# Altium footprint library AMPHENOL_F51L-1A7H1-11010.PcbLib: 1 footprints
Each footprint in its own frame and in the unit in brackets; x right, y up, seen from the top. Pads: shape width x height; smd on the part's side, far side on the other; paste and mask are expansions set on the pad; w line width, h text height; cw(c..) or ccw(c..) is an arc to the next point about the centre after c.
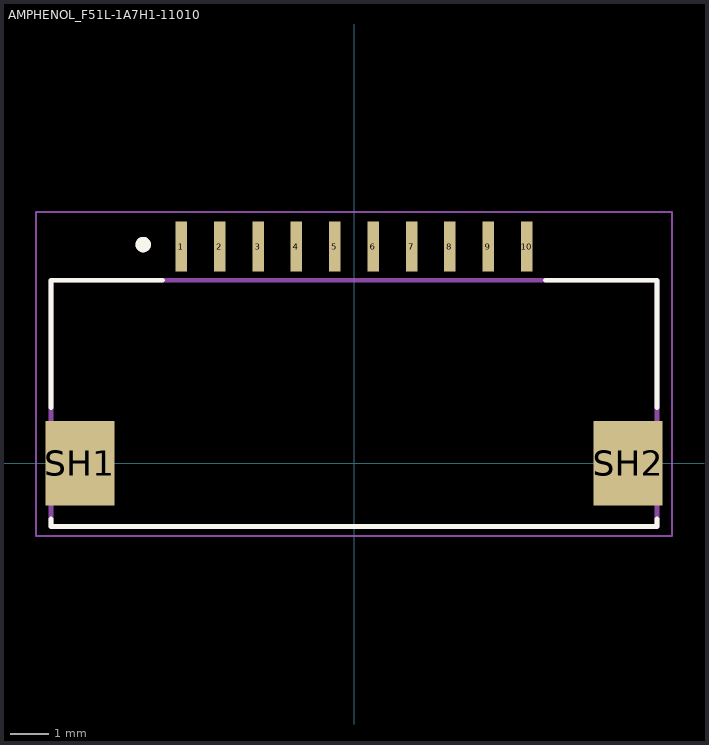
[diagram p0: the footprint, top view; thin cyan lines are the x and y axes]

## AMPHENOL_F51L-1A7H1-11010 [mm]
height 5.3
pads (12):
  rect 0.3x1.3 smd: 1(-4.5,5.65) 2(-3.5,5.65) 3(-2.5,5.65) 4(-1.5,5.65) 5(-0.5,5.65) 6(0.5,5.65) 7(1.5,5.65) 8(2.5,5.65) 9(3.5,5.65) 10(4.5,5.65)
  rect 1.8x2.2 smd: SH1(-7.15,0) SH2(7.15,0)
Top Overlay:
  circle w0.2: c-5.5,5.7 r0.1
  lines w0.127: -7.9,-1.45 -7.9,-1.65 7.9,-1.65 7.9,-1.45 ; -7.9,1.45 -7.9,4.77 -5,4.77 ; 5,4.77 7.9,4.77 7.9,1.45
Mechanical 13:
  circle w0.2: c-5.5,5.7 r0.1
  lines w0.127: -7.9,-1.65 7.9,-1.65 7.9,4.77 -7.9,4.77 -7.9,-1.65
Mechanical 15:
  lines w0.05: -8.3,-1.9 8.3,-1.9 8.3,6.55 -8.3,6.55 -8.3,-1.9
3D body "step_temp.STEP": height 2.55, standoff 0, extent -7.9,-1.65 7.9,5.92